# Altium footprint library PIC18F57Q43-IPT.PcbLib: 3 footprints
Each footprint in its own frame and in the unit in brackets; x right, y up, seen from the top. Pads: shape width x height; smd on the part's side, far side on the other; paste and mask are expansions set on the pad; w line width, h text height; cw(c..) or ccw(c..) is an arc to the next point about the centre after c.
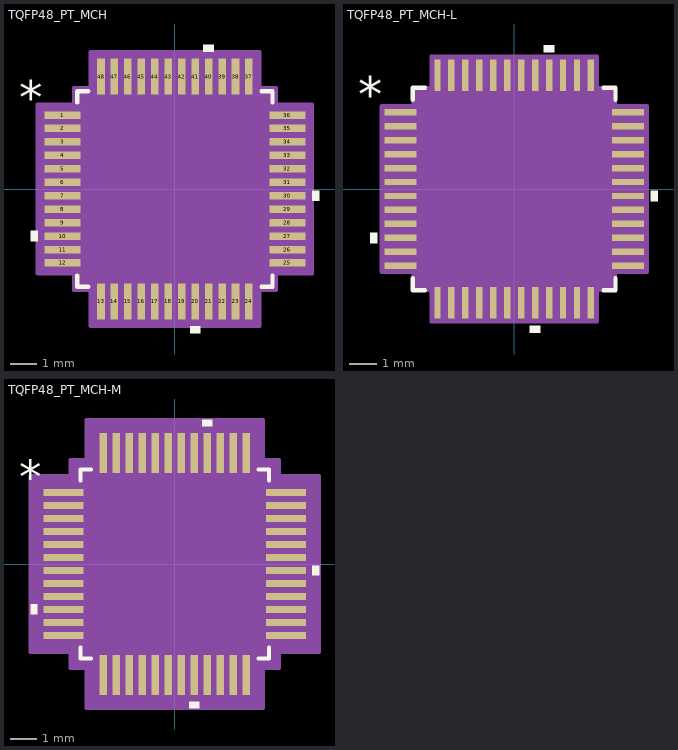
[diagram p0: the footprints below, top view; thin cyan lines are the x and y axes]

## TQFP48_PT_MCH [mm]
pads (48):
  rect 1.341x0.279 smd paste+0 mask+0: 1(-4.176,2.75) 2(-4.176,2.25) 3(-4.176,1.75) 4(-4.176,1.25) 5(-4.176,0.75) 6(-4.176,0.25) 7(-4.176,-0.25) 8(-4.176,-0.75) 9(-4.176,-1.25) 10(-4.176,-1.75) 11(-4.176,-2.25) 12(-4.176,-2.75) 25(4.176,-2.75) 26(4.176,-2.25) 27(4.176,-1.75) 28(4.176,-1.25) 29(4.176,-0.75) 30(4.176,-0.25) 31(4.176,0.25) 32(4.176,0.75) 33(4.176,1.25) 34(4.176,1.75) 35(4.176,2.25) 36(4.176,2.75)
  rect 0.279x1.341 smd paste+0 mask+0: 13(-2.75,-4.176) 14(-2.25,-4.176) 15(-1.75,-4.176) 16(-1.25,-4.176) 17(-0.75,-4.176) 18(-0.25,-4.176) 19(0.25,-4.176) 20(0.75,-4.176) 21(1.25,-4.176) 22(1.75,-4.176) 23(2.25,-4.176) 24(2.75,-4.176) 37(2.75,4.176) 38(2.25,4.176) 39(1.75,4.176) 40(1.25,4.176) 41(0.75,4.176) 42(0.25,4.176) 43(-0.25,4.176) 44(-0.75,4.176) 45(-1.25,4.176) 46(-1.75,4.176) 47(-2.25,4.176) 48(-2.75,4.176)
Top Overlay:
  region: -5.1,-1.559 -5.354,-1.559 -5.354,-1.94 -5.1,-1.94
  region: 0.941,-5.1 0.56,-5.1 0.56,-5.354 0.941,-5.354
  region: 5.1,-0.059 5.354,-0.059 5.354,-0.44 5.1,-0.44
  region: 1.441,5.1 1.06,5.1 1.06,5.354 1.441,5.354
  lines w0.152: -3.632,-3.222 -3.632,-3.632 -3.222,-3.632 ; -3.632,3.222 -3.632,3.632 -3.222,3.632 ; 3.222,-3.632 3.632,-3.632 3.632,-3.222 ; 3.222,3.632 3.632,3.632 3.632,3.222
  text "*" at -5.798,2.746 h1.27
Mechanical 13:
  drawing of 197 lines, arcs and shapes, not listed
  text "*" at -3.442,2.365 h1.27
Mechanical 15:
  region: -3.144,-3.759 -3.759,-3.759 -3.759,-3.144 -5.1,-3.144 -5.1,3.144 -3.759,3.144 -3.759,3.759 -3.144,3.759 -3.144,5.1 3.144,5.1 3.144,3.759 3.759,3.759 3.759,3.144 5.1,3.144 5.1,-3.144 3.759,-3.144 3.759,-3.759 3.144,-3.759 3.144,-5.1 -3.144,-5.1
  lines w0.152: -5.1,-3.144 -3.759,-3.144 -3.759,-3.759 -3.144,-3.759 -3.144,-5.1 3.144,-5.1 3.144,-3.759 3.759,-3.759 3.759,-3.144 5.1,-3.144 5.1,3.144 3.759,3.144 3.759,3.759 3.144,3.759 3.144,5.1 -3.144,5.1 -3.144,3.759 -3.759,3.759 -3.759,3.144 -5.1,3.144 -5.1,-3.144
3D body "TQFP48_PT_MCH.step": height 1.2, standoff 0, extent -4.496,-4.496 4.496,4.496

## TQFP48_PT_MCH-L [mm]
pads (48):
  rect 1.141x0.229 smd paste+0 mask+0: 1(-4.075,2.75) 2(-4.075,2.25) 3(-4.075,1.75) 4(-4.075,1.25) 5(-4.075,0.75) 6(-4.075,0.25) 7(-4.075,-0.25) 8(-4.075,-0.75) 9(-4.075,-1.25) 10(-4.075,-1.75) 11(-4.075,-2.25) 12(-4.075,-2.75) 25(4.075,-2.75) 26(4.075,-2.25) 27(4.075,-1.75) 28(4.075,-1.25) 29(4.075,-0.75) 30(4.075,-0.25) 31(4.075,0.25) 32(4.075,0.75) 33(4.075,1.25) 34(4.075,1.75) 35(4.075,2.25) 36(4.075,2.75)
  rect 0.229x1.141 smd paste+0 mask+0: 13(-2.75,-4.075) 14(-2.25,-4.075) 15(-1.75,-4.075) 16(-1.25,-4.075) 17(-0.75,-4.075) 18(-0.25,-4.075) 19(0.25,-4.075) 20(0.75,-4.075) 21(1.25,-4.075) 22(1.75,-4.075) 23(2.25,-4.075) 24(2.75,-4.075) 37(2.75,4.075) 38(2.25,4.075) 39(1.75,4.075) 40(1.25,4.075) 41(0.75,4.075) 42(0.25,4.075) 43(-0.25,4.075) 44(-0.75,4.075) 45(-1.25,4.075) 46(-1.75,4.075) 47(-2.25,4.075) 48(-2.75,4.075)
Top Overlay:
  region: -4.9,-1.559 -5.154,-1.559 -5.154,-1.94 -4.9,-1.94
  region: 0.941,-4.9 0.56,-4.9 0.56,-5.154 0.941,-5.154
  region: 4.9,-0.059 5.154,-0.059 5.154,-0.44 4.9,-0.44
  region: 1.441,4.9 1.06,4.9 1.06,5.154 1.441,5.154
  lines w0.152: -3.632,-3.197 -3.632,-3.632 -3.197,-3.632 ; -3.632,3.197 -3.632,3.632 -3.197,3.632 ; 3.197,-3.632 3.632,-3.632 3.632,-3.197 ; 3.197,3.632 3.632,3.632 3.632,3.197
  text "*" at -5.598,2.746 h1.27
Mechanical 13:
  drawing of 197 lines, arcs and shapes, not listed
  text "*" at -3.442,2.365 h1.27
Mechanical 15:
  region: -2.966,-3.607 -3.607,-3.607 -3.607,-2.966 -4.747,-2.966 -4.747,2.966 -3.607,2.966 -3.607,3.607 -2.966,3.607 -2.966,4.747 2.966,4.747 2.966,3.607 3.607,3.607 3.607,2.966 4.747,2.966 4.747,-2.966 3.607,-2.966 3.607,-3.607 2.966,-3.607 2.966,-4.747 -2.966,-4.747
  lines w0.152: -4.747,-2.966 -3.607,-2.966 -3.607,-3.607 -2.966,-3.607 -2.966,-4.747 2.966,-4.747 2.966,-3.607 3.607,-3.607 3.607,-2.966 4.747,-2.966 4.747,2.966 3.607,2.966 3.607,3.607 2.966,3.607 2.966,4.747 -2.966,4.747 -2.966,3.607 -3.607,3.607 -3.607,2.966 -4.747,2.966 -4.747,-2.966
3D body "TQFP48_PT_MCH.step": height 1.2, standoff 0, extent -4.496,-4.496 4.496,4.496

## TQFP48_PT_MCH-M [mm]
pads (48):
  rect 1.541x0.279 smd paste+0 mask+0: 1(-4.276,2.75) 2(-4.276,2.25) 3(-4.276,1.75) 4(-4.276,1.25) 5(-4.276,0.75) 6(-4.276,0.25) 7(-4.276,-0.25) 8(-4.276,-0.75) 9(-4.276,-1.25) 10(-4.276,-1.75) 11(-4.276,-2.25) 12(-4.276,-2.75) 25(4.276,-2.75) 26(4.276,-2.25) 27(4.276,-1.75) 28(4.276,-1.25) 29(4.276,-0.75) 30(4.276,-0.25) 31(4.276,0.25) 32(4.276,0.75) 33(4.276,1.25) 34(4.276,1.75) 35(4.276,2.25) 36(4.276,2.75)
  rect 0.279x1.541 smd paste+0 mask+0: 13(-2.75,-4.276) 14(-2.25,-4.276) 15(-1.75,-4.276) 16(-1.25,-4.276) 17(-0.75,-4.276) 18(-0.25,-4.276) 19(0.25,-4.276) 20(0.75,-4.276) 21(1.25,-4.276) 22(1.75,-4.276) 23(2.25,-4.276) 24(2.75,-4.276) 37(2.75,4.276) 38(2.25,4.276) 39(1.75,4.276) 40(1.25,4.276) 41(0.75,4.276) 42(0.25,4.276) 43(-0.25,4.276) 44(-0.75,4.276) 45(-1.25,4.276) 46(-1.75,4.276) 47(-2.25,4.276) 48(-2.75,4.276)
Top Overlay:
  region: -5.3,-1.559 -5.554,-1.559 -5.554,-1.94 -5.3,-1.94
  region: 0.941,-5.3 0.56,-5.3 0.56,-5.554 0.941,-5.554
  region: 5.3,-0.059 5.554,-0.059 5.554,-0.44 5.3,-0.44
  region: 1.441,5.3 1.06,5.3 1.06,5.554 1.441,5.554
  lines w0.152: -3.632,-3.222 -3.632,-3.632 -3.222,-3.632 ; -3.632,3.222 -3.632,3.632 -3.222,3.632 ; 3.222,-3.632 3.632,-3.632 3.632,-3.222 ; 3.222,3.632 3.632,3.632 3.632,3.222
  text "*" at -5.998,2.746 h1.27
Mechanical 13:
  drawing of 197 lines, arcs and shapes, not listed
  text "*" at -3.442,2.365 h1.27
Mechanical 15:
  region: -3.398,-4.013 -4.013,-4.013 -4.013,-3.398 -5.554,-3.398 -5.554,3.398 -4.013,3.398 -4.013,4.013 -3.398,4.013 -3.398,5.554 3.398,5.554 3.398,4.013 4.013,4.013 4.013,3.398 5.554,3.398 5.554,-3.398 4.013,-3.398 4.013,-4.013 3.398,-4.013 3.398,-5.554 -3.398,-5.554
  lines w0.152: -5.554,-3.398 -4.013,-3.398 -4.013,-4.013 -3.398,-4.013 -3.398,-5.554 3.398,-5.554 3.398,-4.013 4.013,-4.013 4.013,-3.398 5.554,-3.398 5.554,3.398 4.013,3.398 4.013,4.013 3.398,4.013 3.398,5.554 -3.398,5.554 -3.398,4.013 -4.013,4.013 -4.013,3.398 -5.554,3.398 -5.554,-3.398
3D body "TQFP48_PT_MCH.step": height 1.2, standoff 0, extent -4.496,-4.496 4.496,4.496